# Altium schematic symbol library zynq_board.SchLib: 68 symbols
Pins are listed as number, name and electrical type; pins without a type are passive.

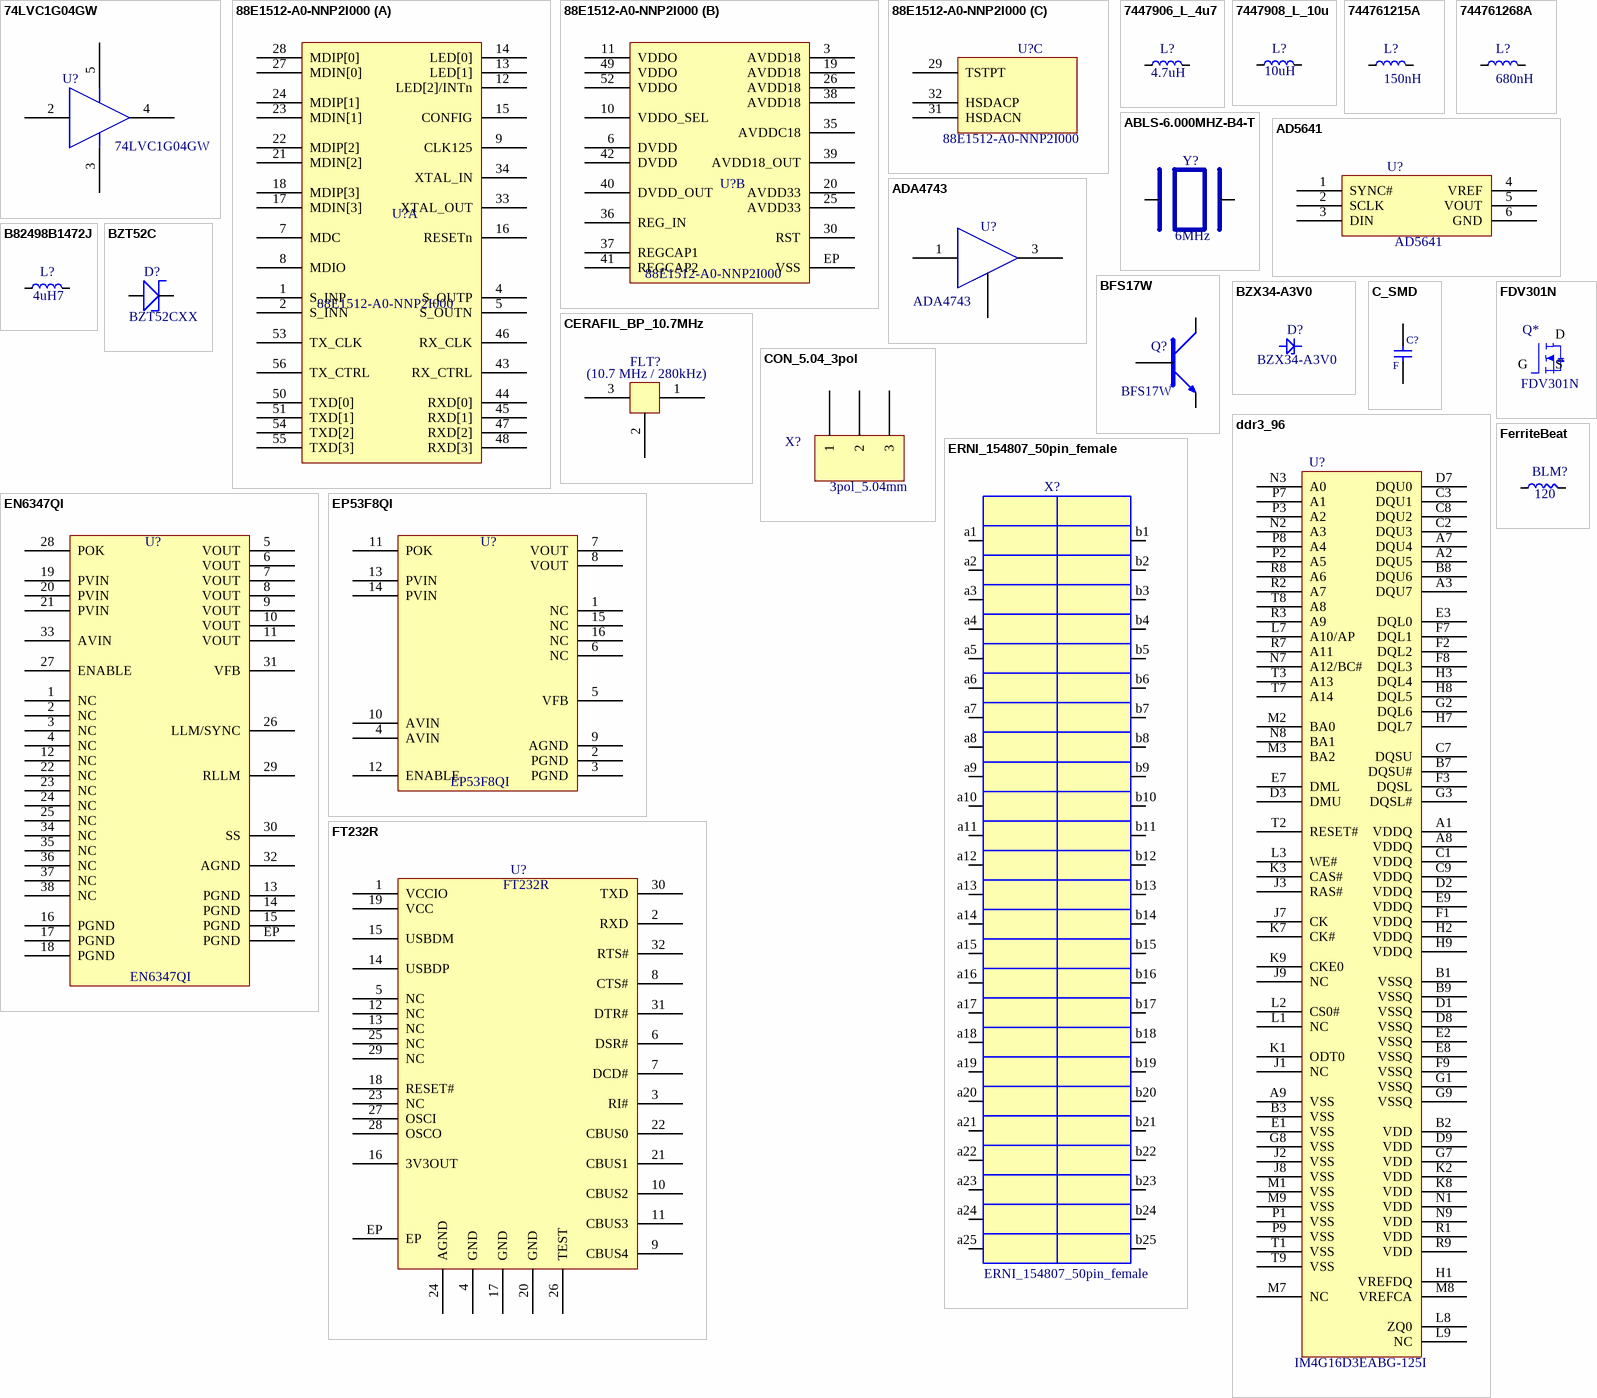
[diagram p0: symbols 74LVC1G04GW to FT232R]

## 74LVC1G04GW
designator U?
74LVC1G04GW,125
footprint SOT-353
pins: 2, 3, 4, 5

## 88E1512-A0-NNP2I000
designator U?
footprint QFN56
part A pins: 1 S_INP, 2 S_INN, 4 S_OUTP, 5 S_OUTN, 7 MDC, 8 MDIO, 9 CLK125, 12 LED[2]/INTn, 13 LED[1], 14 LED[0], 15 CONFIG, 16 RESETn, 17 MDIN[3], 18 MDIP[3], 21 MDIN[2], 22 MDIP[2], 23 MDIN[1], 24 MDIP[1], 27 MDIN[0], 28 MDIP[0], 33 XTAL_OUT, 34 XTAL_IN, 43 RX_CTRL, 44 RXD[0], 45 RXD[1], 46 RX_CLK, 47 RXD[2], 48 RXD[3], 50 TXD[0], 51 TXD[1], 53 TX_CLK, 54 TXD[2], 55 TXD[3], 56 TX_CTRL
part B pins: 3 AVDD18, 6 DVDD, 10 VDDO_SEL, 11 VDDO, 19 AVDD18, 20 AVDD33, 25 AVDD33, 26 AVDD18, 30 RST, 35 AVDDC18, 36 REG_IN, 37 REGCAP1, 38 AVDD18, 39 AVDD18_OUT, 40 DVDD_OUT, 41 REGCAP2, 42 DVDD, 49 VDDO, 52 VDDO, EP VSS
part C pins: 29 TSTPT, 31 HSDACN, 32 HSDACP

## 7447906_L_4u7
designator L?, comment 4.7uH
7447906, WE Inductor; LINK: https://katalog.we-online.de/pbs/datasheet/7447906.pdf; Value: 4.7uH
footprint WE-MI SMD Multilayer Inductor
pins: 1, 2

## 7447908_L_10u
designator L?, comment 10uH
7447908, WE Inductor
footprint WE-MI SMD Multilayer Inductor
pins: 1, 2

## 744761215A
designator L?, comment 150nH
744761215A,150nH Inductor, Würth Elektorn
footprint L_0603_A
footprint L_0805
pins: 1, 2

## 744761268A
designator L?, comment 680nH
744761268A, 680nH
footprint L_0603_A
footprint L_0805
pins: 1, 2

## ABLS-6.000MHZ-B4-T
designator Y?, comment 6MHz
footprint ABLS_CRYSTAL
pins: 1, 2

## AD5641
designator U?
AD5641BKSZ-500RL7
footprint SOT-363
pins: 1 SYNC#, 2 SCLK, 3 DIN, 4 VREF, 5 VOUT, 6 GND

## ADA4743
designator U?
ADA-4743-TR1G
footprint SOT-343
pins: 1, 2, 3, 4

## B82498B1472J
designator L?, comment 4uH7
B82498B1472J
pins: 1, 2

## BFS17W
designator Q?
BFS17WH6327XTSA1
footprint SOT-323
pins: 1 B, 2 E, 3 C

## BZT52C
designator D?, comment BZT52CXX
footprint SOD-323
pins: 1, 2

## BZX34-A3V0
designator D?
Link: http://cache.nxp.com/documents/data_sheet/BZX84_SER.pdf?pspll=1
footprint BZX34-A3V0
pins: 1 A, 3 K

## C_SMD
designator C?, comment value F  (hidden comment: SMD capacitor)
Type: X5R; Voltage Rate: *
footprint C_SMD_0402
footprint C_SMD_0603
footprint C_SMD_0805
footprint C_SMD_1206
footprint C_SMD_1210
pins: 1, 2

## CERAFIL_BP_10.7MHz
designator FLT?, comment (10.7 MHz / 280kHz)
Murata SFECV10M7FA00-R0
footprint Cerafil_10.7MHz_Filter
pins: 1, 2, 3

## CON_5.04_3pol
designator X?, comment 3pol_5.04mm
3 polig, 5.04mm pitch
footprint POWER_CON
pins: 1, 2, 3

## ddr3_96
designator U?, comment IM4G16D3EABG-125I
Link: http://www.intelligentmemory.com/fileadmin/pdf-datasheets/IM4G04-08-16D3EABG-0106.pdf
footprint FBGA96 6x16
pins: A1 VDDQ, A2 DQU5, A3 DQU7, A7 DQU4, A8 VDDQ, A9 VSS, B1 VSSQ, B2 VDD, B3 VSS, B7 DQSU#, B8 DQU6, B9 VSSQ, C1 VDDQ, C2 DQU3, C3 DQU1, C7 DQSU, C8 DQU2, C9 VDDQ, D1 VSSQ, D2 VDDQ, D3 DMU, D7 DQU0, D8 VSSQ, D9 VDD, E1 VSS, E2 VSSQ, E3 DQL0, E7 DML, E8 VSSQ, E9 VDDQ, F1 VDDQ, F2 DQL2, F3 DQSL, F7 DQL1, F8 DQL3, F9 VSSQ, G1 VSSQ, G2 DQL6, G3 DQSL#, G7 VDD, G8 VSS, G9 VSSQ, H1 VREFDQ, H2 VDDQ, H3 DQL4, H7 DQL7, H8 DQL5, H9 VDDQ, J1 NC, J2 VSS, J3 RAS#, J7 CK, J8 VSS, J9 NC, K1 ODT0, K2 VDD, K3 CAS#, K7 CK#, K8 VDD, K9 CKE0, L1 NC, L2 CS0#, L3 WE#, L7 A10/AP, L8 ZQ0, L9 NC, M1 VSS, M2 BA0, M3 BA2, M7 NC, M8 VREFCA, M9 VSS, N1 VDD, N2 A3, N3 A0, N7 A12/BC#, N8 BA1, N9 VDD, P1 VSS, P2 A5, P3 A2, P7 A1, P8 A4, P9 VSS, R1 VDD, R2 A7, R3 A9, R7 A11, R8 A6, R9 VDD, T1 VSS, T2 RESET#, T3 A13, T7 A14, T8 A8, T9 VSS

## EN6347QI
designator U?
Link: https://www.altera.com/content/dam/altera-www/global/en_US/pdfs/literature/ds/en6347qi_05991.pdf
footprint EN6347QI
pins: 1 NC, 2 NC, 3 NC, 4 NC, 5 VOUT, 6 VOUT, 7 VOUT, 8 VOUT, 9 VOUT, 10 VOUT, 11 VOUT, 12 NC, 13 PGND, 14 PGND, 15 PGND, 16 PGND, 17 PGND, 18 PGND, 19 PVIN, 20 PVIN, 21 PVIN, 22 NC, 23 NC, 24 NC, 25 NC, 26 LLM/SYNC, 27 ENABLE, 28 POK, 29 RLLM, 30 SS, 31 VFB, 32 AGND, 33 AVIN, 34 NC, 35 NC, 36 NC, 37 NC, 38 NC, EP PGND

## EP53F8QI
designator U?
Link: https://www.altera.com/content/dam/altera-www/global/en_US/pdfs/literature/ds/ep53f8qi_01542.pdf
footprint ep53f8qi_01542
pins: 1 NC, 2 PGND, 3 PGND, 4 AVIN, 5 VFB, 6 NC, 7 VOUT, 8 VOUT, 9 AGND, 10 AVIN, 11 POK, 12 ENABLE, 13 PVIN, 14 PVIN, 15 NC, 16 NC

## ERNI_154807_50pin_female
designator X?
footprint ERNI_SMC_50_PINM
pins: a1, a2, a3, a4, a5, a6, a7, a8, a9, a10, a11, a12, a13, a14, a15, a16, a17, a18, a19, a20, a21, a22, a23, a24, a25, b1, b2, b3, b4, b5, b6, b7, b8, b9, b10, b11, b12, b13, b14, b15, b16, b17, b18, b19, b20, b21, b22, b23, b24, b25

## FDV301N
designator Q*
Link: https://www.fairchildsemi.com/datasheets/FD/FDV301N.pdf
footprint FDV301N (N-MOS)
pins: D, G, S

## FerriteBeat
designator BLM?  (value not drawn)
BLM18SG121TN1; Link: http://www.murata.com/en-us/api/pdfdownloadapi?cate=luNoiseSupprFilteChipFerriBead&partno=BLM18SG121TN1%23
footprint BLM18SG121TN1 (120R1MHz/0.025DC)
pins: 1, 2
text: 120

## FT232R
designator U?
FT232RQ-REEL
footprint QFN32_5x5
pins: 1 VCCIO, 2 RXD, 3 RI#, 4 GND, 5 NC, 6 DSR#, 7 DCD#, 8 CTS#, 9 CBUS4, 10 CBUS2, 11 CBUS3, 12 NC, 13 NC, 14 USBDP, 15 USBDM, 16 3V3OUT, 17 GND, 18 RESET#, 19 VCC, 20 GND, 21 CBUS1, 22 CBUS0, 23 NC, 24 AGND, 25 NC, 26 TEST, 27 OSCI, 28 OSCO, 29 NC, 30 TXD, 31 DTR#, 32 RTS#, EP

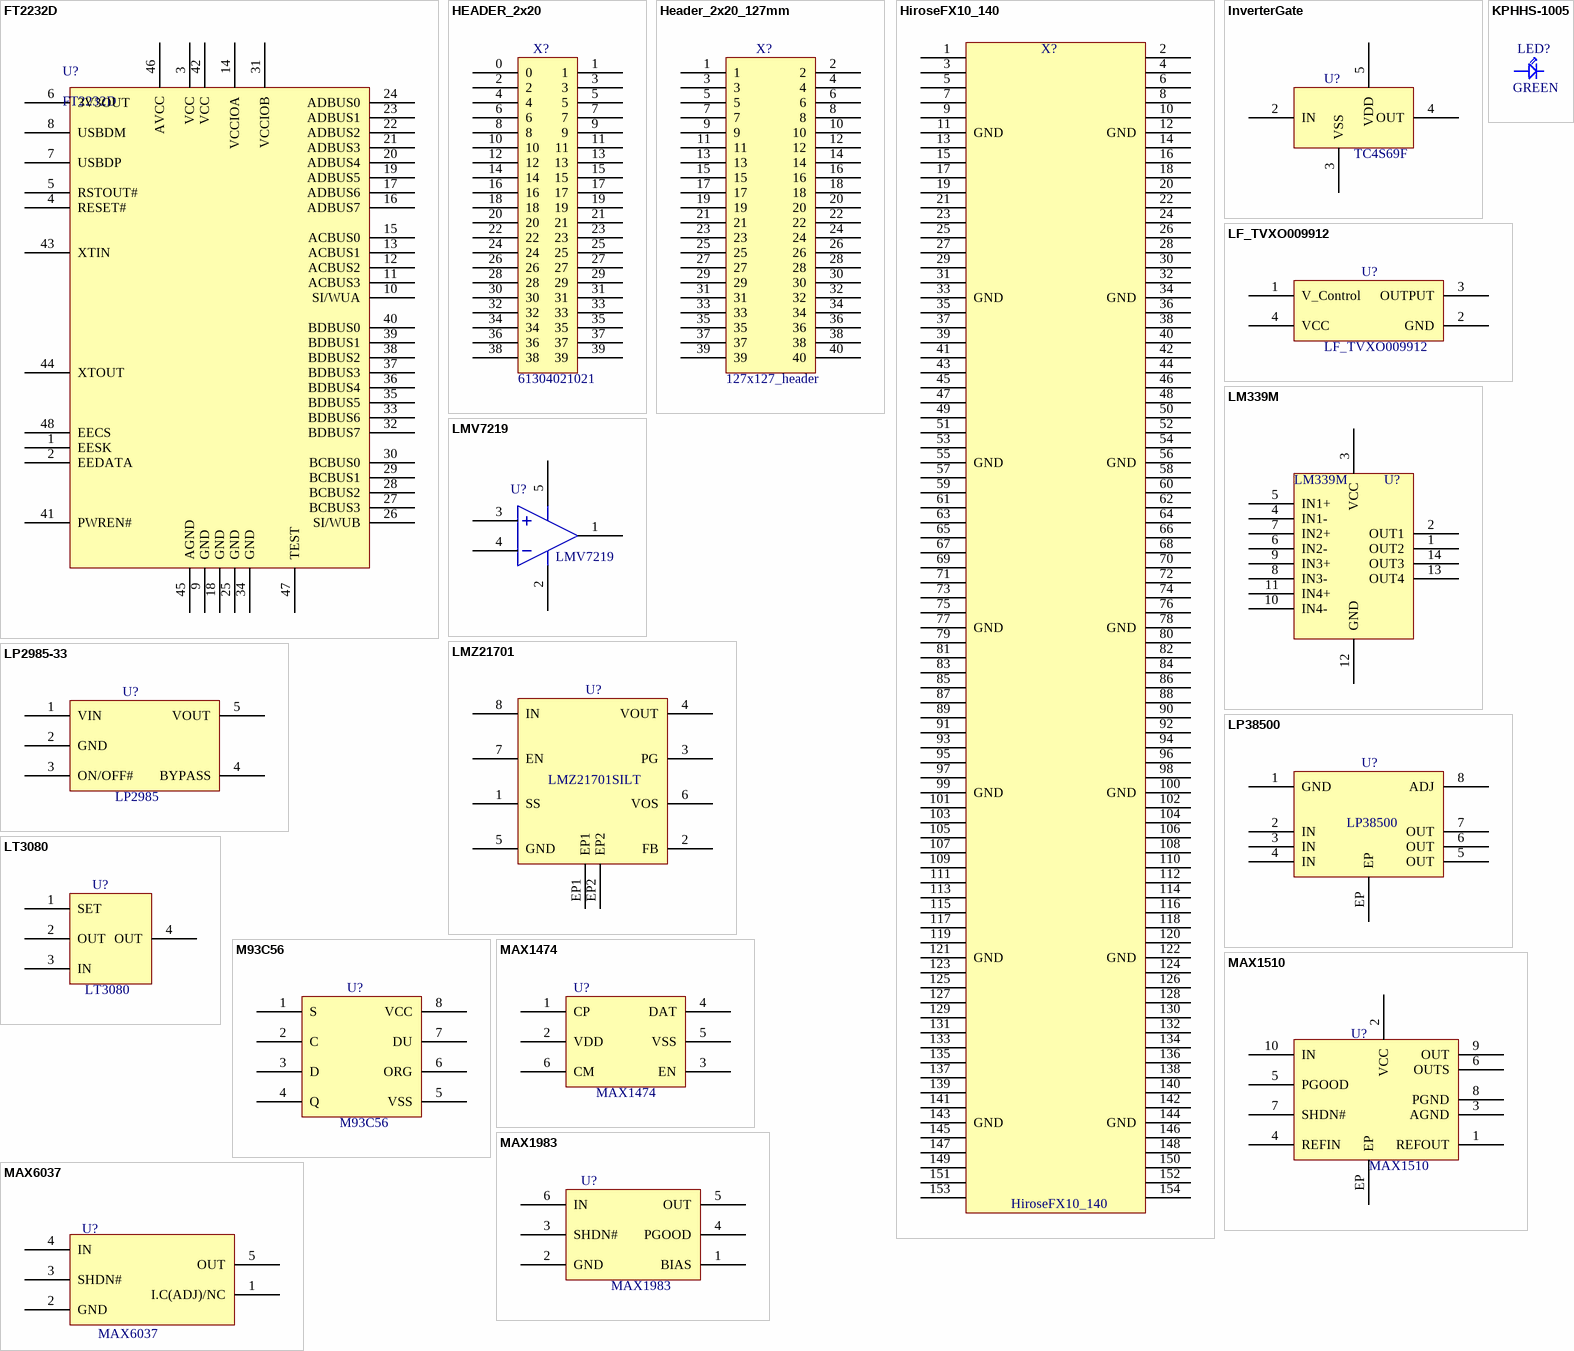
[diagram p1: symbols FT2232D to MAX6037]

## FT2232D
designator U?
FT2232D-REEL, FTDI-CHIP
footprint LQFP48
pins: 1 EESK, 2 EEDATA, 3 VCC, 4 RESET#, 5 RSTOUT#, 6 3V3OUT, 7 USBDP, 8 USBDM, 9 GND, 10 SI/WUA, 11 ACBUS3, 12 ACBUS2, 13 ACBUS1, 14 VCCIOA, 15 ACBUS0, 16 ADBUS7, 17 ADBUS6, 18 GND, 19 ADBUS5, 20 ADBUS4, 21 ADBUS3, 22 ADBUS2, 23 ADBUS1, 24 ADBUS0, 25 GND, 26 SI/WUB, 27 BCBUS3, 28 BCBUS2, 29 BCBUS1, 30 BCBUS0, 31 VCCIOB, 32 BDBUS7, 33 BDBUS6, 34 GND, 35 BDBUS5, 36 BDBUS4, 37 BDBUS3, 38 BDBUS2, 39 BDBUS1, 40 BDBUS0, 41 PWREN#, 42 VCC, 43 XTIN, 44 XTOUT, 45 AGND, 46 AVCC, 47 TEST, 48 EECS

## HEADER_2x20
designator X?, comment 61304021021
footprint 2x20_Header
pins: 0, 1, 2, 3, 4, 5, 6, 7, 8, 9, 10, 11, 12, 13, 14, 15, 16, 17, 18, 19, 20, 21, 22, 23, 24, 25, 26, 27, 28, 29, 30, 31, 32, 33, 34, 35, 36, 37, 38, 39

## Header_2x20_127mm
designator X?, comment 127x127_header
127x127_header_throughole, 2x20
footprint Header_127x127_40PIN
pins: 1, 2, 3, 4, 5, 6, 7, 8, 9, 10, 11, 12, 13, 14, 15, 16, 17, 18, 19, 20, 21, 22, 23, 24, 25, 26, 27, 28, 29, 30, 31, 32, 33, 34, 35, 36, 37, 38, 39, 40

## HiroseFX10_140
designator X?
Link: http://hrs.hiroseusa.com/FX10_brochure_Rev3.pdf
footprint HiroseFX10_Receptacle
footprint HIROSEFX10_HEADER
pins: 1, 2, 3, 4, 5, 6, 7, 8, 9, 10, 11 GND, 12 GND, 13, 14, 15, 16, 17, 18, 19, 20, 21, 22, 23, 24, 25, 26, 27, 28, 29, 30, 31, 32, 33 GND, 34 GND, 35, 36, 37, 38, 39, 40, 41, 42, 43, 44, 45, 46, 47, 48, 49, 50, 51, 52, 53, 54, 55 GND, 56 GND, 57, 58, 59, 60, 61, 62, 63, 64, 65, 66, 67, 68, 69, 70, 71, 72, 73, 74, 75, 76, 77 GND, 78 GND, 79, 80, 81, 82, 83, 84, 85, 86, 87, 88, 89, 90, 91, 92, 93, 94, 95, 96, 97, 98, 99 GND, 100 GND, 101, 102, 103, 104, 105, 106, 107, 108, 109, 110, 111, 112, 113, 114, 115, 116, 117, 118, 119, 120, 121 GND, 122 GND, 123, 124, 125, 126, 127, 128, 129, 130, 131, 132, 133, 134, 135, 136, 137, 138, 139, 140, 141, 142, 143 GND, 144 GND, 145, 146, 147, 148, 149, 150, 151, 152, 153, 154

## InverterGate
designator U?, comment TC4S69F
Inverter,  TC4S69F(TE85L,F)  Toshiba
footprint SOT-23-5
pins: 2 IN, 3 VSS, 4 OUT, 5 VDD

## KPHHS-1005
designator LED?
Link: http://datasheet.octopart.com/KPHHS1005SURCK-Kingbright-datasheet-10853925.pdf
footprint R_SMD_0402
pins: 1, 2
text: GREEN

## LF_TVXO009912
designator U?
footprint CFPT-126
pins: 1 V_Control, 2 GND, 3 OUTPUT, 4 VCC

## LM339M
designator U?
Link: https://www.fairchildsemi.com/datasheets/LM/LM2901.pdf
footprint SOP14
footprint LMV39_QUAD
pins: 1 OUT2, 2 OUT1, 3 VCC, 4 IN1-, 5 IN1+, 6 IN2-, 7 IN2+, 8 IN3-, 9 IN3+, 10 IN4-, 11 IN4+, 12 GND, 13 OUT4, 14 OUT3

## LMV7219
designator U?
LMV7219M5
footprint SOT-23-5
pins: 1, 2, 3, 4, 5

## LMZ21701
designator U?, comment LMZ21701SILT
footprint LMZ21701
pins: 1 SS, 2 FB, 3 PG, 4 VOUT, 5 GND, 6 VOS, 7 EN, 8 IN, EP1, EP2

## LP2985-33
designator U?, comment LP2985
LP2985-33DBVR
footprint SOT-23-5
pins: 1 VIN, 2 GND, 3 ON/OFF#, 4 BYPASS, 5 VOUT

## LP38500
designator U?
LP38502ASD-ADJ/NOPB
footprint LP38500
pins: 1 GND, 2 IN, 3 IN, 4 IN, 5 OUT, 6 OUT, 7 OUT, 8 ADJ, EP

## LT3080
designator U?
footprint SOT-223
pins: 1 SET, 2 OUT, 3 IN, 4 OUT

## M93C56
designator U?
M93C56-WMN6TP
footprint SO8N
pins: 1 S, 2 C, 3 D, 4 Q, 5 VSS, 6 ORG, 7 DU, 8 VCC

## MAX1474
designator U?
MAX1474AXT+T
footprint SOT-363
pins: 1 CP, 2 VDD, 3 EN, 4 DAT, 5 VSS, 6 CM

## MAX1510
designator U?
footprint MAX1510
pins: 1 REFOUT, 2 VCC, 3 AGND, 4 REFIN, 5 PGOOD, 6 OUTS, 7 SHDN#, 8 PGND, 9 OUT, 10 IN, EP

## MAX1983
designator U?
Link: https://datasheets.maximintegrated.com/en/ds/MAX1982-MAX1983.pdf
footprint MAX1983
pins: 1 BIAS, 2 GND, 3 SHDN#, 4 PGOOD, 5 OUT, 6 IN

## MAX6037
designator U?
Link: https://datasheets.maximintegrated.com/en/ds/MAX6037-MAX6037C.pdf
footprint MAX6037
pins: 1 I.C(ADJ)/NC, 2 GND, 3 SHDN#, 4 IN, 5 OUT

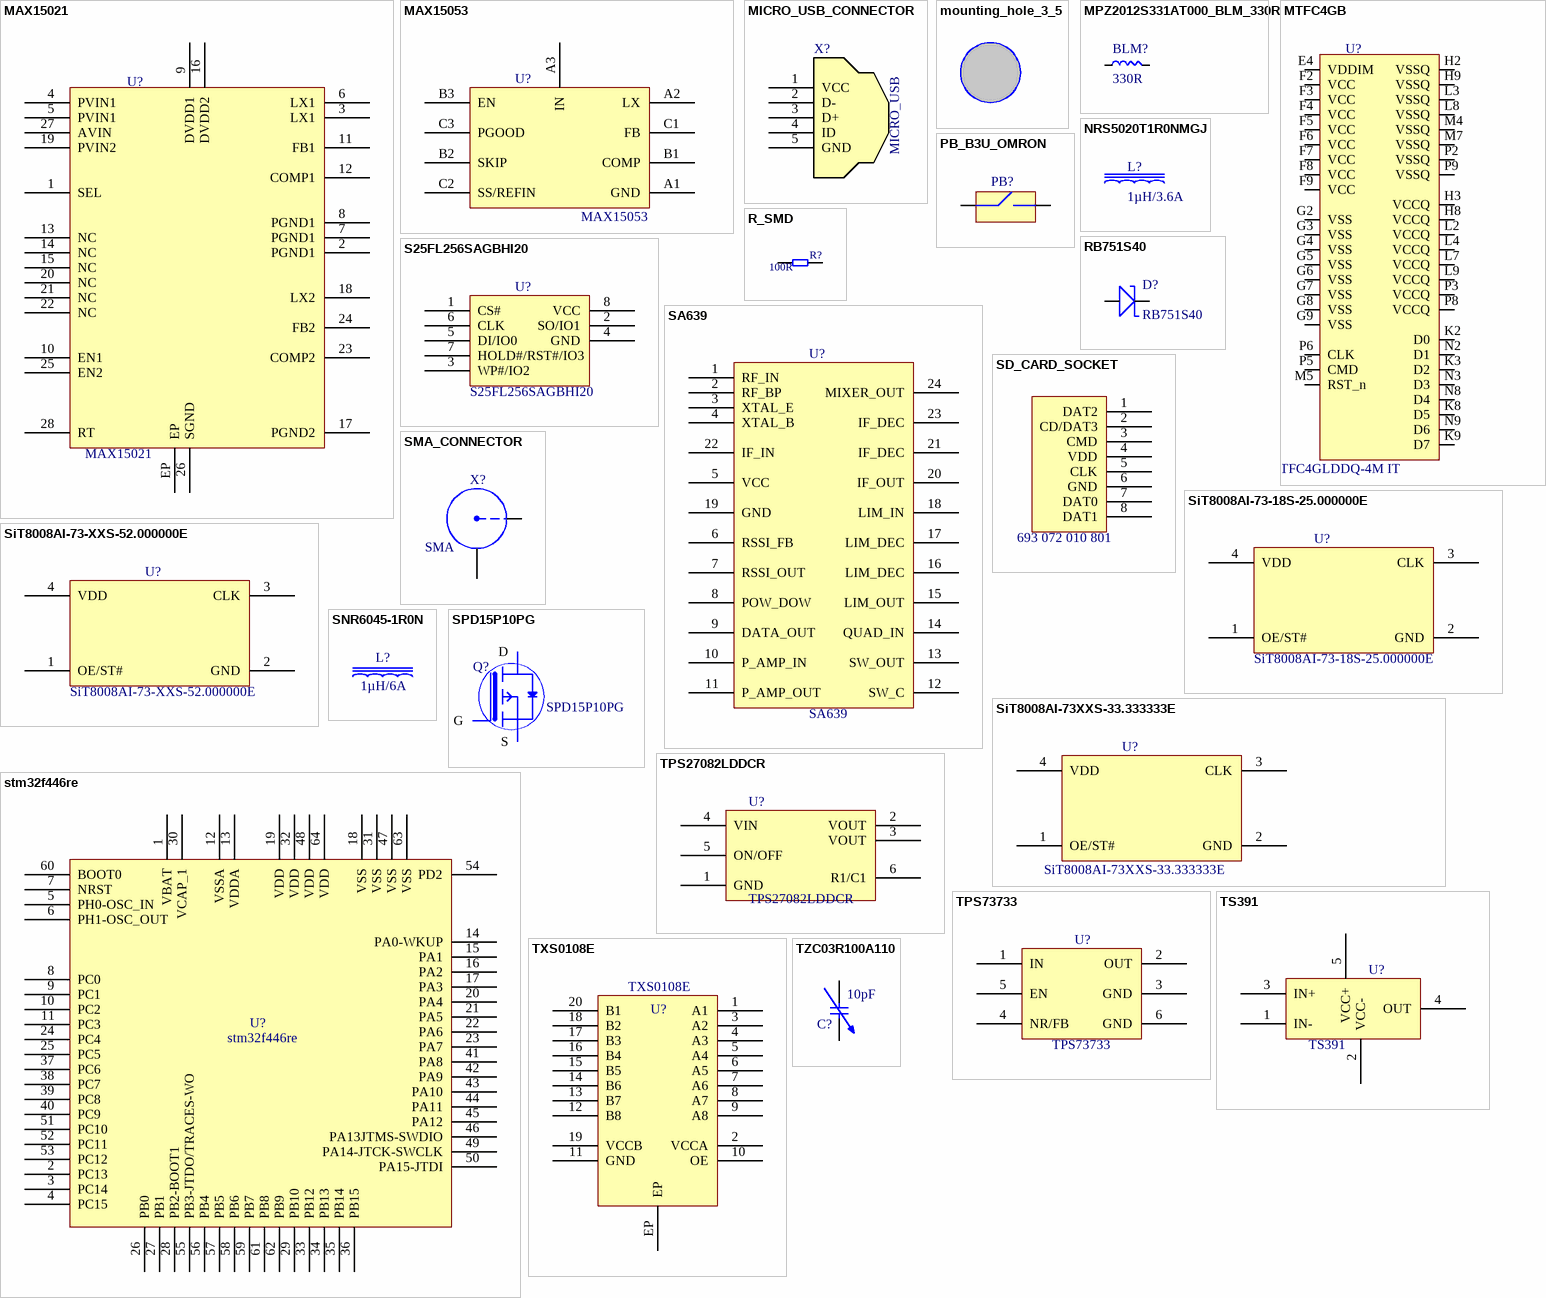
[diagram p2: symbols MAX15021 to TZC03R100A110]

## MAX15021
designator U?
footprint MAX15021
pins: 1 SEL, 2 PGND1, 3 LX1, 4 PVIN1, 5 PVIN1, 6 LX1, 7 PGND1, 8 PGND1, 9 DVDD1, 10 EN1, 11 FB1, 12 COMP1, 13 NC, 14 NC, 15 NC, 16 DVDD2, 17 PGND2, 18 LX2, 19 PVIN2, 20 NC, 21 NC, 22 NC, 23 COMP2, 24 FB2, 25 EN2, 26 SGND, 27 AVIN, 28 RT, EP

## MAX15053
designator U?
footprint MAX15053
pins: A1 GND, A2 LX, A3 IN, B1 COMP, B2 SKIP, B3 EN, C1 FB, C2 SS/REFIN, C3 PGOOD

## MICRO_USB_CONNECTOR
designator X?, comment MICRO_USB
10118194, MICRO_USB_CONNECTOR
footprint MICRO_USB_10118194
pins: 1 VCC, 2 D-, 3 D+, 4 ID, 5 GND

## mounting_hole_3_5
designator H?  (value not drawn)
footprint mounting_hole_3_2_rest_3_5

## MPZ2012S331AT000_BLM_330R
designator BLM?, comment 330R
MPZ2012S331AT000
footprint L_0805
pins: 1, 2

## MTFC4GB
designator U?, comment MTFC4GLDDQ-4M IT
Link: http://www.datasheets360.com/pdf/8121444246164807111
footprint micron_eMMC
pins: E4 VDDIM, F2 VCC, F3 VCC, F4 VCC, F5 VCC, F6 VCC, F7 VCC, F8 VCC, F9 VCC, G2 VSS, G3 VSS, G4 VSS, G5 VSS, G6 VSS, G7 VSS, G8 VSS, G9 VSS, H2 VSSQ, H3 VCCQ, H8 VCCQ, H9 VSSQ, K2 D0, K3 D2, K8 D5, K9 D7, L2 VCCQ, L3 VSSQ, L4 VCCQ, L7 VCCQ, L8 VSSQ, L9 VCCQ, M4 VSSQ, M5 RST_n, M7 VSSQ, N2 D1, N3 D3, N8 D4, N9 D6, P2 VSSQ, P3 VCCQ, P5 CMD, P6 CLK, P8 VCCQ, P9 VSSQ

## NRS5020T1R0NMGJ
designator L?, comment 1µH/3.6A
footprint NRS5020T1R0NMGJ (1µH/3.6A)
pins: 1, 2

## PB_B3U_OMRON
designator PB?  (value not drawn)
footprint B3U-1000P(M)_PB
pins: 1, 2

## R_SMD
designator R?, comment value 100R  (hidden comment: SMD Resistor)
footprint R_SMD_0402
footprint R_SMD_0805
footprint R_SMD_1206
footprint R_SMD_1210
footprint R_SMD_0603
pins: 1, 2

## RB751S40
designator D?
Link: https://www.fairchildsemi.com/datasheets/RB/RB751S40.pdf
footprint RB751S40_SOD-523 (Schotkey Diode NOT GENERIC)
pins: 1, 2

## S25FL256SAGBHI20
designator U?
Link: http://www.spansion.com/Support/Application%20Notes/Migrate_S70FL256P_to_S25FL256S_AN.pdf
footprint BGA5_4
footprint S25FL_WSON
pins: 1 CS#, 2 SO/IO1, 3 WP#/IO2, 4 GND, 5 DI/IO0, 6 CLK, 7 HOLD#/RST#/IO3, 8 VCC

## SA639
designator U?
SA639DH/01,118
footprint TSSOP24
pins: 1 RF_IN, 2 RF_BP, 3 XTAL_E, 4 XTAL_B, 5 VCC, 6 RSSI_FB, 7 RSSI_OUT, 8 POW_DOW, 9 DATA_OUT, 10 P_AMP_IN, 11 P_AMP_OUT, 12 SW_C, 13 SW_OUT, 14 QUAD_IN, 15 LIM_OUT, 16 LIM_DEC, 17 LIM_DEC, 18 LIM_IN, 19 GND, 20 IF_OUT, 21 IF_DEC, 22 IF_IN, 23 IF_DEC, 24 MIXER_OUT

## SD_CARD_SOCKET
designator ?, comment 693 072 010 801
Link: http://www.farnell.com/datasheets/1912449.pdf
footprint Micro_SD_Connector
pins: 1 DAT2, 2 CD/DAT3, 3 CMD, 4 VDD, 5 CLK, 6 GND, 7 DAT0, 8 DAT1

## SiT8008AI-73-18S-25.000000E
designator U?
DATASHEET: http://download.opendatasheets.com/pdfs/2013/6/5/16/52/57/80/sitm_/manual/sit8008-datasheet.pdf
footprint SiT8008-CLK
pins: 1 OE/ST#, 2 GND, 3 CLK, 4 VDD

## SiT8008AI-73-XXS-52.000000E
designator U?
Link: http://download.opendatasheets.com/pdfs/2013/6/5/16/52/57/80/sitm_/manual/sit8008-datasheet.pdf
footprint SiT8008-CLK
pins: 1 OE/ST#, 2 GND, 3 CLK, 4 VDD

## SiT8008AI-73XXS-33.333333E
designator U?
DATASHEET: http://download.opendatasheets.com/pdfs/2013/6/5/16/52/57/80/sitm_/manual/sit8008-datasheet.pdf
footprint SiT8008-CLK
pins: 1 OE/ST#, 2 GND, 3 CLK, 4 VDD

## SMA_CONNECTOR
designator X?, comment SMA
5-1814832-1
footprint SMA_CONNECTOR
pins: 1 6, 2 GND, 3 GND, 4 GND, 5 GND

## SNR6045-1R0N
designator L?, comment 1µH/6A
footprint SNR6045-1R0N (1µH/6A)
pins: 1, 2

## SPD15P10PG
designator Q?
SPD15P10PGBTMA1, MOSFET P-CH 100V 15A TO252-3
footprint PG-TO-252-3
pins: 1 G, 2 D, 3 S

## stm32f446re
designator U?
32uC; OrderingNumber: STM32F446RET6; HelpURL: http://www.st.com/content/st_com/en/products/microcontrollers/stm32-32-bit-arm-cortex-mcus/stm32f4-series/stm32f446/stm32f446re.html
footprint LQFP64
pins: 1 VBAT, 2 PC13, 3 PC14, 4 PC15, 5 PH0-OSC_IN, 6 PH1-OSC_OUT, 7 NRST, 8 PC0, 9 PC1, 10 PC2, 11 PC3, 12 VSSA, 13 VDDA, 14 PA0-WKUP, 15 PA1, 16 PA2, 17 PA3, 18 VSS, 19 VDD, 20 PA4, 21 PA5, 22 PA6, 23 PA7, 24 PC4, 25 PC5, 26 PB0, 27 PB1, 28 PB2-BOOT1, 29 PB10, 30 VCAP_1, 31 VSS, 32 VDD, 33 PB12, 34 PB13, 35 PB14, 36 PB15, 37 PC6, 38 PC7, 39 PC8, 40 PC9, 41 PA8, 42 PA9, 43 PA10, 44 PA11, 45 PA12, 46 PA13JTMS-SWDIO, 47 VSS, 48 VDD, 49 PA14-JTCK-SWCLK, 50 PA15-JTDI, 51 PC10, 52 PC11, 53 PC12, 54 PD2, 55 PB3-JTDO/TRACES-WO, 56 PB4, 57 PB5, 58 PB6, 59 PB7, 60 BOOT0, 61 PB8, 62 PB9, 63 VSS, 64 VDD

## TPS27082LDDCR
designator U?
Link: http://www.mouser.com/ds/2/405/tps27082l-437514.pdf
footprint SOT6
pins: 1 GND, 2 VOUT, 3 VOUT, 4 VIN, 5 ON/OFF, 6 R1/C1

## TPS73733
designator U?
TPS73733DCQR
footprint SOT-223-6
pins: 1 IN, 2 OUT, 3 GND, 4 NR/FB, 5 EN, 6 GND

## TS391
designator U?
TS391RILT,   Comparator General Purpose TTL, DTL, ECL, MOS, CMOS SOT-23-5
footprint SOT-23-5
pins: 1 IN-, 2 VCC-, 3 IN+, 4 OUT, 5 VCC+

## TXS0108E
designator U?
Link: http://www.ti.com/lit/ds/symlink/txs0108e-q1.pdf
footprint BGA5_4
footprint TXS0108E
pins: 1 A1, 2 VCCA, 3 A2, 4 A3, 5 A4, 6 A5, 7 A6, 8 A7, 9 A8, 10 OE, 11 GND, 12 B8, 13 B7, 14 B6, 15 B5, 16 B4, 17 B3, 18 B2, 19 VCCB, 20 B1, EP

## TZC03R100A110
designator C?, comment 10pF
TZC03R100A110
footprint TZC03
pins: 1, 2

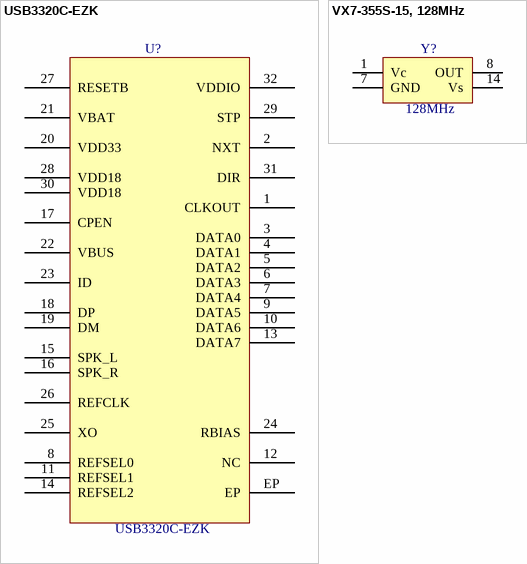
[diagram p3: symbols USB3320C-EZK to VX7-355S-15, 128MHz]

## USB3320C-EZK
designator U?
Link: http://ww1.microchip.com/downloads/en/DeviceDoc/3320.pdf
footprint QFN32_05pitch
pins: 1 CLKOUT, 2 NXT, 3 DATA0, 4 DATA1, 5 DATA2, 6 DATA3, 7 DATA4, 8 REFSEL0, 9 DATA5, 10 DATA6, 11 REFSEL1, 12 NC, 13 DATA7, 14 REFSEL2, 15 SPK_L, 16 SPK_R, 17 CPEN, 18 DP, 19 DM, 20 VDD33, 21 VBAT, 22 VBUS, 23 ID, 24 RBIAS, 25 XO, 26 REFCLK, 27 RESETB, 28 VDD18, 29 STP, 30 VDD18, 31 DIR, 32 VDDIO, EP

## VX7-355S-15, 128MHz
designator Y?, comment 128MHz
VX7-355S-15 128MHz
footprint VX7-355S-15
pins: 1 Vc, 7 GND, 8 OUT, 14 Vs